# EAGLE library part P092N (library pot-tt_electronics)
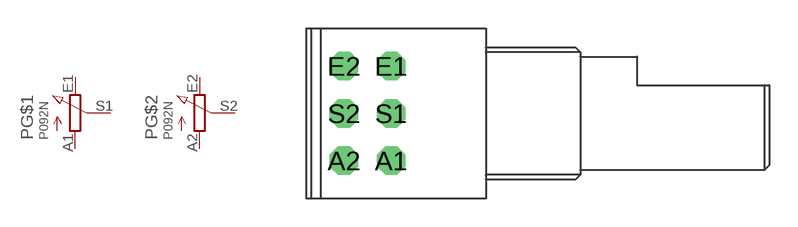
[diagram p0: symbol with the pads of P092N; footprint P092N]

Designator prefix P; gates G$1=POT_EU- G$2=POT_EU-

## P092N  [P092N]
A1  G$1:A  pas
A2  G$2:A  pas
E1  G$1:E  pas
E2  G$2:E  pas
S1  G$1:S  pas
S2  G$2:S  pas

## Footprint P092N (pad centres in mm)
drill 1 octagon: A1 -5,-2.5; A2 -7.5,-2.5; E1 -5,2.5; E2 -7.5,2.5; S1 -5,0; S2 -7.5,0